# Altium footprint library BSPD_Library.PcbLib: 9 footprints
Each footprint in its own frame and in the unit in brackets; x right, y up, seen from the top. Pads: shape width x height; smd on the part's side, far side on the other; paste and mask are expansions set on the pad; w line width, h text height; cw(c..) or ccw(c..) is an arc to the next point about the centre after c.
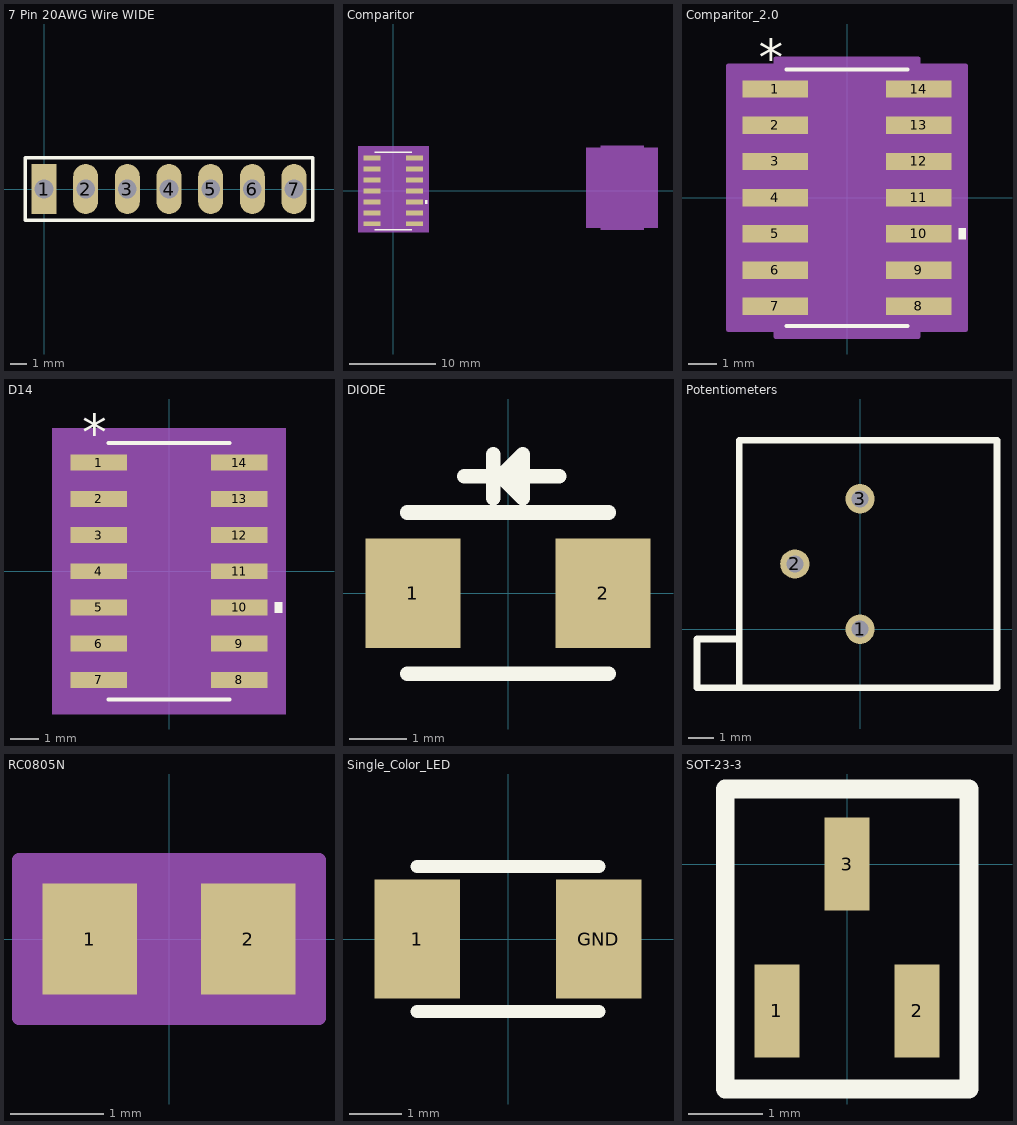
[diagram p0: the footprints below, top view; thin cyan lines are the x and y axes]

## 7 Pin 20AWG Wire WIDE [mil] "Connector; Header; 7 Position"
pads (7):
  rect 60x120 hole 45: 1(0,0)
  oval 60x120 hole 45: 2(100,0) 3(200,0) 4(300,0) 5(400,0) 6(500,0) 7(600,0)
Top Overlay:
  lines w7.87: -45,-75 645,-75 645,75 -45,75 -45,-75

## Comparitor [mil]
pads (14):
  rect 78x22 smd paste+0 mask+0: 1(-97,150) 2(-97,100) 3(-97,50) 4(-97,0) 5(-97,-50) 6(-97,-100) 7(-97,-150) 8(97,-150) 9(97,-100) 10(97,-50) 11(97,0) 12(97,50) 13(97,100) 14(97,150)
Top Overlay:
  region: 146,-42.5 156,-42.5 156,-57.5 146,-57.5
  lines w6: -83.5,-177 83.5,-177 ; -83.5,177 83.5,177
Mechanical 5:
  region: 161,-189 -161,-189 -161,205 161,205
Mechanical 13:
  lines w0: -12,172 ccw(c0,172) 12,172
  lines w1: -122,-160 -78.5,-160 -78.5,-140 -122,-140 -122,-160 ; -122,-110 -78.5,-110 -78.5,-90 -122,-90 -122,-110 ; -122,-60 -78.5,-60 -78.5,-40 -122,-40 -122,-60 ; -122,-10 -78.5,-10 -78.5,10 -122,10 -122,-10 ; -122,40 -122,60 -78.5,60 -78.5,40 -122,40 ; -122,90 -122,110 -78.5,110 -78.5,90 -122,90 ; -122,140 -122,160 -78.5,160 -78.5,140 -122,140 ; -78.5,-172 -78.5,172 78.5,172 78.5,-172 -78.5,-172 ; 78.5,-160 122,-160 122,-140 78.5,-140 78.5,-160 ; 78.5,-110 122,-110 122,-90 78.5,-90 78.5,-110 ; 78.5,-60 122,-60 122,-40 78.5,-40 78.5,-60 ; 78.5,-10 122,-10 122,10 78.5,10 78.5,-10 ; 78.5,40 122,40 122,60 78.5,60 78.5,40 ; 78.5,90 122,90 122,110 78.5,110 78.5,90 ; 78.5,140 122,140 122,160 78.5,160 78.5,140
  text "*" at -76,119 h50
Mechanical 15:
  region: 946.5,-167 881,-167 881,197 946.5,197 946.5,207 1143.5,207 1143.5,197 1209,197 1209,-167 1143.5,-167 1143.5,-177 946.5,-177
  region: -88.5,-171 -146,-171 -146,171 -88.5,171 -88.5,182 88.5,182 88.5,171 146,171 146,-171 88.5,-171 88.5,-182 -88.5,-182
  lines w6: -146,-171 -88.5,-171 -88.5,-182 88.5,-182 88.5,-171 146,-171 146,171 88.5,171 88.5,182 -88.5,182 -88.5,171 -146,171 -146,-171
3D body: height 10, standoff 0, extent 0,0 10,10

## Comparitor_2.0 [mil]
pads (14):
  rect 90x24 smd paste+0 mask+0: 1(-99,150) 2(-99,100) 3(-99,50) 4(-99,0) 5(-99,-50) 6(-99,-100) 7(-99,-150) 8(99,-150) 9(99,-100) 10(99,-50) 11(99,0) 12(99,50) 13(99,100) 14(99,150)
Top Overlay:
  region: 154,-42.5 164,-42.5 164,-57.5 154,-57.5
  lines w6: -83.5,-177 83.5,-177 ; -83.5,177 83.5,177
  text "*" at -121.5,169 h50
Mechanical 13:
  lines w0: -12,172 ccw(c0,172) 12,172
  lines w1: -122,-160 -78.5,-160 -78.5,-140 -122,-140 -122,-160 ; -122,-110 -78.5,-110 -78.5,-90 -122,-90 -122,-110 ; -122,-60 -78.5,-60 -78.5,-40 -122,-40 -122,-60 ; -122,-10 -78.5,-10 -78.5,10 -122,10 -122,-10 ; -122,40 -78.5,40 -78.5,60 -122,60 -122,40 ; -122,90 -78.5,90 -78.5,110 -122,110 -122,90 ; -122,140 -78.5,140 -78.5,160 -122,160 -122,140 ; -78.5,-172 -78.5,172 78.5,172 78.5,-172 -78.5,-172 ; 78.5,-160 122,-160 122,-140 78.5,-140 78.5,-160 ; 78.5,-110 122,-110 122,-90 78.5,-90 78.5,-110 ; 78.5,-60 122,-60 122,-40 78.5,-40 78.5,-60 ; 78.5,-10 122,-10 122,10 78.5,10 78.5,-10 ; 78.5,40 122,40 122,60 78.5,60 78.5,40 ; 78.5,90 122,90 122,110 78.5,110 78.5,90 ; 78.5,140 122,140 122,160 78.5,160 78.5,140
  text "*" at -76,119 h50
Mechanical 15:
  region: -98.5,-182 -164,-182 -164,182 -98.5,182 -98.5,192 98.5,192 98.5,182 164,182 164,-182 98.5,-182 98.5,-192 -98.5,-192
  lines w6: -164,-182 -98.5,-182 -98.5,-192 98.5,-192 98.5,-182 164,-182 164,182 98.5,182 98.5,192 -98.5,192 -98.5,182 -164,182 -164,-182
3D body: height 10, standoff 0, extent 0,0 10,10

## D14 [mil]
pads (14):
  rect 78x22 smd paste+0 mask+0: 1(-97,150) 2(-97,100) 3(-97,50) 4(-97,0) 5(-97,-50) 6(-97,-100) 7(-97,-150) 8(97,-150) 9(97,-100) 10(97,-50) 11(97,0) 12(97,50) 13(97,100) 14(97,150)
Top Overlay:
  region: 146,-42.5 156,-42.5 156,-57.5 146,-57.5
  lines w6: -83.5,-177 83.5,-177 ; -83.5,177 83.5,177
  text "*" at -119.5,167 h50
Mechanical 5:
  region: 161,-197 -161,-197 -161,197 161,197
Mechanical 13:
  lines w0: -12,172 ccw(c0,172) 12,172
  lines w1: -122,-160 -122,-140 -78.5,-140 -78.5,-160 -122,-160 ; -122,-110 -122,-90 -78.5,-90 -78.5,-110 -122,-110 ; -122,-60 -122,-40 -78.5,-40 -78.5,-60 -122,-60 ; -122,-10 -122,10 -78.5,10 -78.5,-10 -122,-10 ; -122,40 -122,60 -78.5,60 -78.5,40 -122,40 ; -122,90 -122,110 -78.5,110 -78.5,90 -122,90 ; -122,140 -78.5,140 -78.5,160 -122,160 -122,140 ; -78.5,-172 78.5,-172 78.5,172 -78.5,172 -78.5,-172 ; 78.5,-160 78.5,-140 122,-140 122,-160 78.5,-160 ; 78.5,-110 78.5,-90 122,-90 122,-110 78.5,-110 ; 78.5,-60 78.5,-40 122,-40 122,-60 78.5,-60 ; 78.5,-10 78.5,10 122,10 122,-10 78.5,-10 ; 78.5,40 78.5,60 122,60 122,40 78.5,40 ; 78.5,90 78.5,110 122,110 122,90 78.5,90 ; 78.5,140 78.5,160 122,160 122,140 78.5,140
  text "*" at -76,119 h50
Mechanical 15:
  region: -88.5,-171 -146,-171 -146,171 -88.5,171 -88.5,182 88.5,182 88.5,171 146,171 146,-171 88.5,-171 88.5,-182 -88.5,-182
  lines w6: -146,-171 -146,171 -88.5,171 -88.5,182 88.5,182 88.5,171 146,171 146,-171 88.5,-171 88.5,-182 -88.5,-182 -88.5,-171 -146,-171
3D body: height 10, standoff 0, extent 0,0 10,10

## DIODE [mil]
pads (2):
  rect 65x75 smd: 1(-65,0) 2(65,0)
Top Overlay:
  lines w10: -68.9,-55.12 68.9,-55.12 ; -68.9,55.12 68.9,55.12 ; -30,80 35,80 ; -10,65 -10,95 ; -10,80 -5,80 ; -5,80 10,95 10,65 -5,80

## Potentiometers [mil]
pads (3):
  round 45 hole 26: 1(0,0) 2(-100,100) 3(0,200)
Top Overlay:
  lines w10: -187.5,-15 -250,-15 -250,-90 -185,-90 -185,290 210,290 210,-90 -182.5,-90

## RC0805N [mil]
pads (2):
  rect 40x47 smd: 1(-33.5,0) 2(33.5,0)
Mechanical 15:
  region: 63.5,-33.5 -63.5,-33.5 -63.5,33.5 63.5,33.5
  lines w6: -63.5,-33.5 63.5,-33.5 63.5,33.5 -63.5,33.5 -63.5,-33.5

## Single_Color_LED [mil]
pads (2):
  rect 65x90 smd: 1(-68.9,0) GND(68.9,0)
Top Overlay:
  lines w10: -68.9,-55.12 68.9,-55.12 ; -68.9,55.12 68.9,55.12

## SOT-23-3 [mm]
pads (3):
  rect 0.61x1.26 smd: 1(-0.95,-1.99) 2(0.95,-1.99) 3(0,0)
Top Overlay:
  lines w0.254: -1.651,-3.048 1.651,-3.048 1.651,1.016 -1.651,1.016 -1.651,-3.048